# Altium footprint library PLib.PcbLib: 32 footprints (part 1 of 2)
Each footprint in its own frame and in the unit in brackets; x right, y up, seen from the top. Pads: shape width x height; smd on the part's side, far side on the other; paste and mask are expansions set on the pad; w line width, h text height; cw(c..) or ccw(c..) is an arc to the next point about the centre after c.
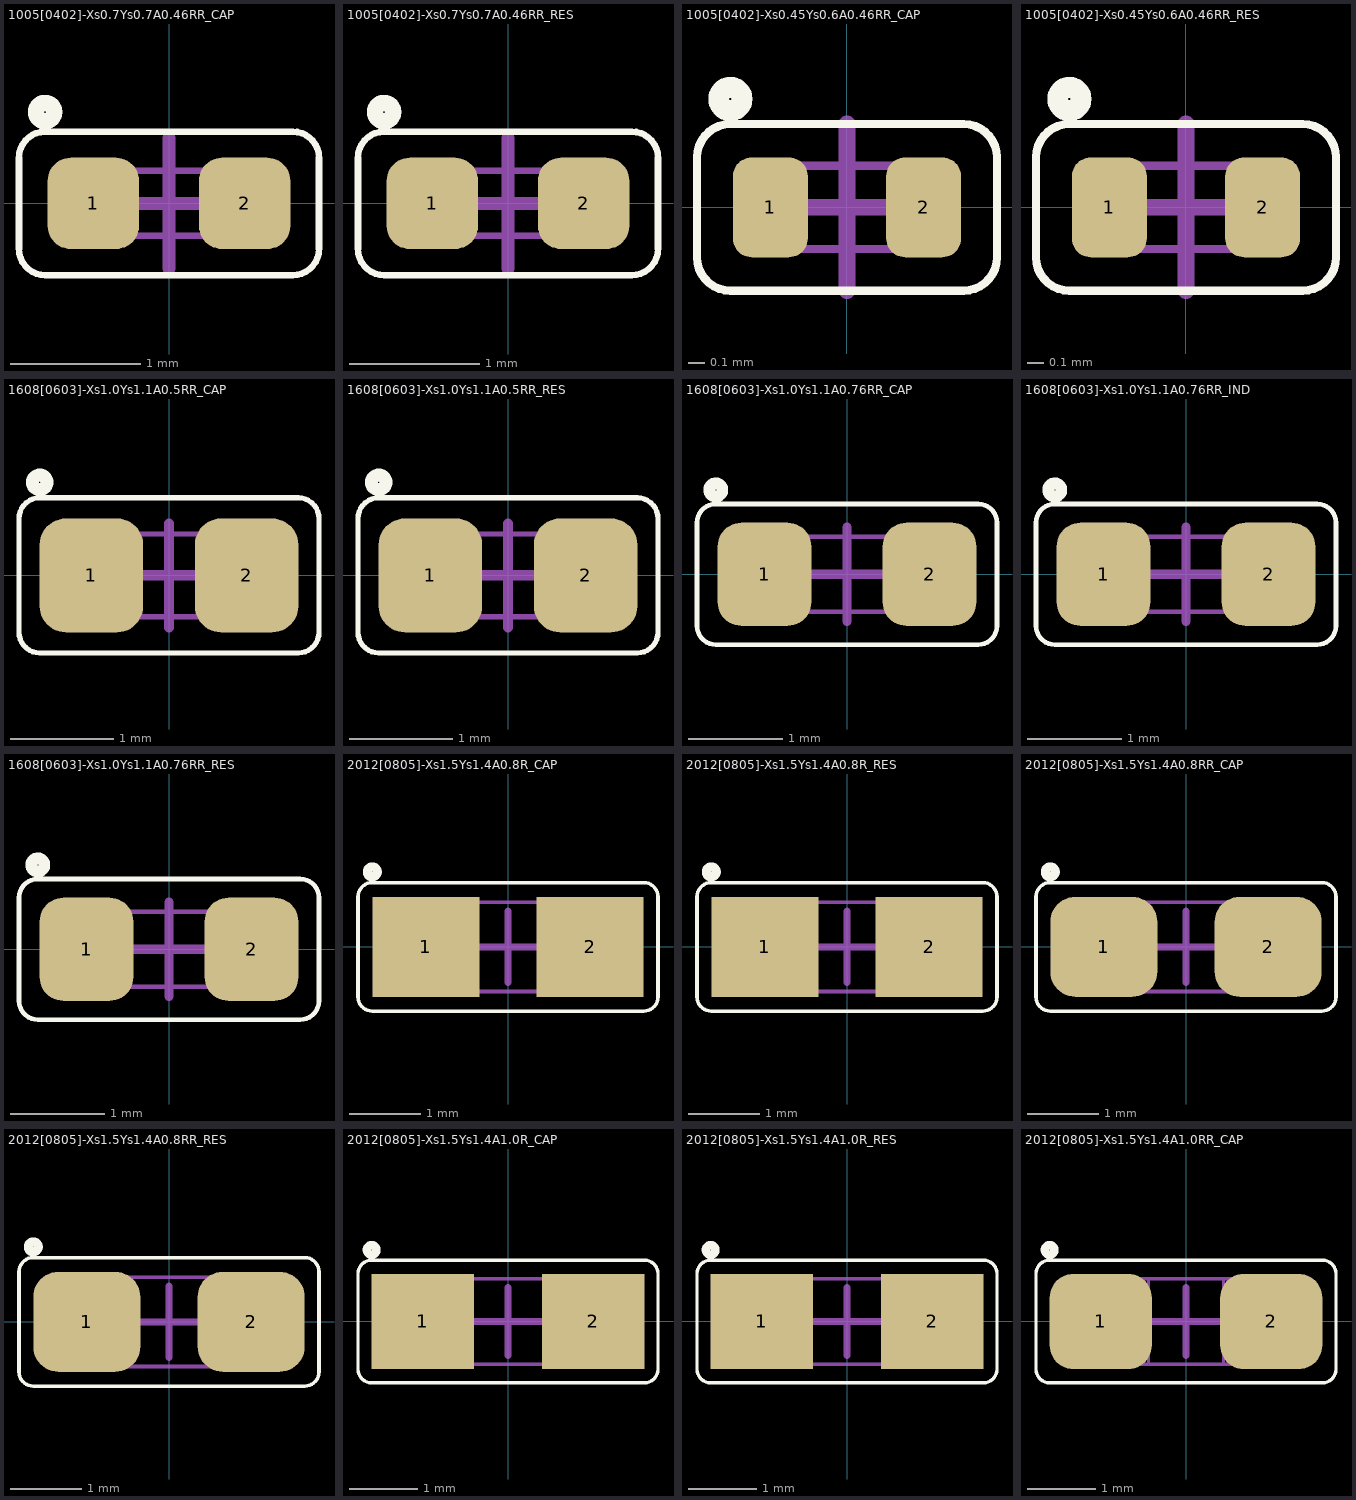
[diagram p0: the footprints below, top view; thin cyan lines are the x and y axes]

## 1005[0402]-Xs0.7Ys0.7A0.46RR_CAP [mm] "Chip; Body 1.1 x 0.5 mm (LxW typ)"
height 0.35
pads (2):
  rrect50% 0.7x0.7 smd mask+0.1: 1(-0.58,0) 2(0.58,0)
Top Overlay:
  circle w0.125: c-0.95,0.7 r0.07
  lines w0.05: -1.15,-0.35 ccw(c-0.95,-0.35) -0.95,-0.55 0.95,-0.55 ccw(c0.95,-0.35) 1.15,-0.35 1.15,0.35 ccw(c0.95,0.35) 0.95,0.55 -0.95,0.55 ccw(c-0.95,0.35) -1.15,0.35 -1.15,-0.35
Mechanical 13:
  lines w0.05: -0.3,-0.25 -0.3,0.25 ; -0.3,-0.25 -0.5,-0.25 -0.5,0.25 -0.3,0.25 ; -0.3,-0.25 0.3,-0.25 ; -0.3,0.25 0.3,0.25 ; 0.3,-0.25 0.3,0.25 ; 0.3,-0.25 0.5,-0.25 0.5,0.25 0.3,0.25
Mechanical 15:
  lines w0.1: -0.5,0 0.5,0 ; 0,-0.5 0,0.5
3D body: height 0.35, standoff 0, extent -0.5,-0.25 -0.3,0.25
3D body: height 0.35, standoff 0, extent -0.3,-0.25 0.3,0.25
3D body: height 0.35, standoff 0, extent 0.3,-0.25 0.5,0.25

## 1005[0402]-Xs0.7Ys0.7A0.46RR_RES [mm] "Chip; Body 1.1 x 0.5 mm (LxW typ)"
height 0.35
pads (2):
  rrect50% 0.7x0.7 smd mask+0.1: 1(-0.58,0) 2(0.58,0)
Top Overlay:
  circle w0.125: c-0.95,0.7 r0.07
  lines w0.05: -1.15,-0.35 ccw(c-0.95,-0.35) -0.95,-0.55 0.95,-0.55 ccw(c0.95,-0.35) 1.15,-0.35 1.15,0.35 ccw(c0.95,0.35) 0.95,0.55 -0.95,0.55 ccw(c-0.95,0.35) -1.15,0.35 -1.15,-0.35
Mechanical 13:
  lines w0.05: -0.3,-0.25 0.3,-0.25 ; -0.3,-0.25 -0.5,-0.25 -0.5,0.25 -0.3,0.25 ; -0.3,-0.25 -0.3,0.25 ; -0.3,0.25 0.3,0.25 ; 0.3,-0.25 0.5,-0.25 0.5,0.25 0.3,0.25 ; 0.3,-0.25 0.3,0.25
Mechanical 15:
  lines w0.1: -0.5,0 0.5,0 ; 0,-0.5 0,0.5
3D body: height 0.35, standoff 0, extent -0.5,-0.25 -0.3,0.25
3D body: height 0.35, standoff 0, extent -0.3,-0.25 0.3,0.25
3D body: height 0.35, standoff 0, extent 0.3,-0.25 0.5,0.25

## 1005[0402]-Xs0.45Ys0.6A0.46RR_CAP [mm] "Chip; Body 1.1 x 0.5 mm (LxW typ)"
height 0.35
pads (2):
  rrect50% 0.45x0.6 smd mask+0.1: 1(-0.46,0) 2(0.46,0)
Top Overlay:
  circle w0.125: c-0.7,0.65 r0.07
  lines w0.05: -0.9,-0.3 ccw(c-0.7,-0.3) -0.7,-0.5 0.7,-0.5 ccw(c0.7,-0.3) 0.9,-0.3 0.9,0.3 ccw(c0.7,0.3) 0.7,0.5 -0.7,0.5 ccw(c-0.7,0.3) -0.9,0.3 -0.9,-0.3
Mechanical 13:
  lines w0.05: -0.305,0.25 0.3,0.25 ; -0.3,-0.25 -0.3,0.25 -0.5,0.25 -0.5,-0.25 -0.3,-0.25 ; -0.3,-0.25 0.3,-0.25 ; 0.3,-0.25 0.3,0.25 ; 0.3,-0.25 0.5,-0.25 0.5,0.25 0.3,0.25
Mechanical 15:
  lines w0.1: -0.5,0 0.5,0 ; 0,-0.5 0,0.5
3D body: height 0.35, standoff 0, extent -0.5,-0.25 -0.3,0.25
3D body: height 0.35, standoff 0, extent -0.3,-0.25 0.3,0.25
3D body: height 0.35, standoff 0, extent 0.3,-0.25 0.5,0.25

## 1005[0402]-Xs0.45Ys0.6A0.46RR_RES [mm] "Chip; Body 1.1 x 0.5 mm (LxW typ)"
height 0.35
pads (2):
  rrect50% 0.45x0.6 smd mask+0.1: 1(-0.46,0) 2(0.46,0)
Top Overlay:
  circle w0.125: c-0.7,0.65 r0.07
  lines w0.05: -0.9,-0.3 ccw(c-0.7,-0.3) -0.7,-0.5 0.7,-0.5 ccw(c0.7,-0.3) 0.9,-0.3 0.9,0.3 ccw(c0.7,0.3) 0.7,0.5 -0.7,0.5 ccw(c-0.7,0.3) -0.9,0.3 -0.9,-0.3
Mechanical 13:
  lines w0.05: -0.305,0.25 0.3,0.25 ; -0.3,-0.25 0.3,-0.25 ; -0.3,-0.25 -0.5,-0.25 -0.5,0.25 -0.3,0.25 -0.3,-0.25 ; 0.3,-0.25 0.5,-0.25 0.5,0.25 0.3,0.25 ; 0.3,-0.25 0.3,0.25
Mechanical 15:
  lines w0.1: -0.5,0 0.5,0 ; 0,-0.5 0,0.5
3D body: height 0.35, standoff 0, extent -0.5,-0.25 -0.3,0.25
3D body: height 0.35, standoff 0, extent -0.3,-0.25 0.3,0.25
3D body: height 0.35, standoff 0, extent 0.3,-0.25 0.5,0.25

## 1608[0603]-Xs1.0Ys1.1A0.5RR_CAP [mm] "Chip; Body 1.6 x 0.8 mm (LxW typ)"
height 0.45
pads (2):
  rrect50% 1x1.1 smd mask+0.1: 1(-0.75,0) 2(0.75,0)
Top Overlay:
  circle w0.125: c-1.25,0.9 r0.07
  lines w0.05: -1.45,-0.55 ccw(c-1.25,-0.55) -1.25,-0.75 1.25,-0.75 ccw(c1.25,-0.55) 1.45,-0.55 1.45,0.55 ccw(c1.25,0.55) 1.25,0.75 -1.25,0.75 ccw(c-1.25,0.55) -1.45,0.55 -1.45,-0.55
Mechanical 13:
  lines w0.05: -0.45,-0.4 -0.8,-0.4 -0.8,0.4 -0.45,0.4 ; -0.45,-0.4 -0.45,0.4 ; -0.45,-0.4 0.45,-0.4 ; -0.45,0.4 0.45,0.4 ; 0.45,-0.4 0.45,0.4 ; 0.45,-0.4 0.8,-0.4 0.8,0.4 0.45,0.4
Mechanical 15:
  lines w0.1: -0.5,0 0.5,0 ; 0,-0.5 0,0.5
3D body: height 0.45, standoff 0, extent -0.8,-0.4 -0.45,0.4
3D body: height 0.45, standoff 0, extent -0.45,-0.4 0.45,0.4
3D body: height 0.45, standoff 0, extent 0.45,-0.4 0.8,0.4

## 1608[0603]-Xs1.0Ys1.1A0.5RR_RES [mm] "Chip; Body 1.6 x 0.8 mm (LxW typ)"
height 0.45
pads (2):
  rrect50% 1x1.1 smd mask+0.1: 1(-0.75,0) 2(0.75,0)
Top Overlay:
  circle w0.125: c-1.25,0.9 r0.07
  lines w0.05: -1.45,-0.55 ccw(c-1.25,-0.55) -1.25,-0.75 1.25,-0.75 ccw(c1.25,-0.55) 1.45,-0.55 1.45,0.55 ccw(c1.25,0.55) 1.25,0.75 -1.25,0.75 ccw(c-1.25,0.55) -1.45,0.55 -1.45,-0.55
Mechanical 13:
  lines w0.05: -0.45,-0.4 0.45,-0.4 ; -0.45,-0.4 -0.45,0.4 ; -0.45,-0.4 -0.8,-0.4 -0.8,0.4 -0.45,0.4 ; -0.45,0.4 0.45,0.4 ; 0.45,-0.4 0.8,-0.4 0.8,0.4 0.45,0.4 ; 0.45,-0.4 0.45,0.4
Mechanical 15:
  lines w0.1: -0.5,0 0.5,0 ; 0,-0.5 0,0.5
3D body: height 0.45, standoff 0, extent -0.45,-0.4 0.45,0.4
3D body: height 0.45, standoff 0, extent -0.8,-0.4 -0.45,0.4
3D body: height 0.45, standoff 0, extent 0.45,-0.4 0.8,0.4

## 1608[0603]-Xs1.0Ys1.1A0.76RR_CAP [mm] "Chip; Body 1.6 x 0.8 mm (LxW typ)"
height 0.45
pads (2):
  rrect50% 1x1.1 smd mask+0.1: 1(-0.88,0) 2(0.88,0)
Top Overlay:
  circle w0.125: c-1.4,0.9 r0.07
  lines w0.05: -1.6,-0.55 ccw(c-1.4,-0.55) -1.4,-0.75 1.4,-0.75 ccw(c1.4,-0.55) 1.6,-0.55 1.6,0.55 ccw(c1.4,0.55) 1.4,0.75 -1.4,0.75 ccw(c-1.4,0.55) -1.6,0.55 -1.6,-0.55
Mechanical 13:
  lines w0.05: -0.45,-0.4 -0.8,-0.4 -0.8,0.4 -0.45,0.4 ; -0.45,-0.4 -0.45,0.4 ; -0.45,-0.4 0.45,-0.4 ; -0.45,0.4 0.45,0.4 ; 0.45,-0.4 0.45,0.4 ; 0.45,-0.4 0.8,-0.4 0.8,0.4 0.45,0.4
Mechanical 15:
  lines w0.1: -0.5,0 0.5,0 ; 0,-0.5 0,0.5
3D body: height 0.45, standoff 0, extent -0.8,-0.4 -0.45,0.4
3D body: height 0.45, standoff 0, extent -0.45,-0.4 0.45,0.4
3D body: height 0.45, standoff 0, extent 0.45,-0.4 0.8,0.4

## 1608[0603]-Xs1.0Ys1.1A0.76RR_IND [mm] "Chip; Body 1.6 x 0.8 mm (LxW typ)"
height 0.45
pads (2):
  rrect50% 1x1.1 smd mask+0.1: 1(-0.88,0) 2(0.88,0)
Top Overlay:
  circle w0.125: c-1.4,0.9 r0.07
  lines w0.05: -1.6,-0.55 ccw(c-1.4,-0.55) -1.4,-0.75 1.4,-0.75 ccw(c1.4,-0.55) 1.6,-0.55 1.6,0.55 ccw(c1.4,0.55) 1.4,0.75 -1.4,0.75 ccw(c-1.4,0.55) -1.6,0.55 -1.6,-0.55
Mechanical 13:
  lines w0.05: -0.45,-0.4 -0.8,-0.4 -0.8,0.4 -0.45,0.4 ; -0.45,-0.4 -0.45,0.4 ; -0.45,-0.4 0.45,-0.4 ; -0.45,0.4 0.45,0.4 ; 0.45,-0.4 0.45,0.4 ; 0.45,-0.4 0.8,-0.4 0.8,0.4 0.45,0.4
Mechanical 15:
  lines w0.1: -0.5,0 0.5,0 ; 0,-0.5 0,0.5
3D body: height 0.45, standoff 0, extent 0.45,-0.4 0.8,0.4
3D body: height 0.45, standoff 0, extent -0.8,-0.4 -0.45,0.4
3D body: height 0.45, standoff 0, extent -0.45,-0.4 0.45,0.4

## 1608[0603]-Xs1.0Ys1.1A0.76RR_RES [mm] "Chip; Body 1.6 x 0.8 mm (LxW typ)"
height 0.45
pads (2):
  rrect50% 1x1.1 smd mask+0.1: 1(-0.88,0) 2(0.88,0)
Top Overlay:
  circle w0.125: c-1.4,0.9 r0.07
  lines w0.05: -1.6,-0.55 ccw(c-1.4,-0.55) -1.4,-0.75 1.4,-0.75 ccw(c1.4,-0.55) 1.6,-0.55 1.6,0.55 ccw(c1.4,0.55) 1.4,0.75 -1.4,0.75 ccw(c-1.4,0.55) -1.6,0.55 -1.6,-0.55
Mechanical 13:
  lines w0.05: -0.45,-0.4 0.45,-0.4 ; -0.45,-0.4 -0.45,0.4 ; -0.45,-0.4 -0.8,-0.4 -0.8,0.4 -0.45,0.4 ; -0.45,0.4 0.45,0.4 ; 0.45,-0.4 0.8,-0.4 0.8,0.4 0.45,0.4 ; 0.45,-0.4 0.45,0.4
Mechanical 15:
  lines w0.1: -0.5,0 0.5,0 ; 0,-0.5 0,0.5
3D body: height 0.45, standoff 0, extent -0.45,-0.4 0.45,0.4
3D body: height 0.45, standoff 0, extent -0.8,-0.4 -0.45,0.4
3D body: height 0.45, standoff 0, extent 0.45,-0.4 0.8,0.4

## 2012[0805]-Xs1.5Ys1.4A0.8R_CAP [mm] "Chip; Body 2.0 x 1.3 mm (LxW typ)"
height 0.5
pads (2):
  rect 1.5x1.4 smd mask+0.1: 1(-1.15,0) 2(1.15,0)
Top Overlay:
  circle w0.125: c-1.9,1.05 r0.07
  lines w0.05: -2.1,-0.7 ccw(c-1.9,-0.7) -1.9,-0.9 1.9,-0.9 ccw(c1.9,-0.7) 2.1,-0.7 2.1,0.7 ccw(c1.9,0.7) 1.9,0.9 -1.9,0.9 ccw(c-1.9,0.7) -2.1,0.7 -2.1,-0.7
Mechanical 13:
  lines w0.05: -0.555,-0.625 0.55,-0.625 ; -0.55,0.625 0.55,0.625 ; -0.55,0.625 -0.55,0.625 ; -0.55,0.625 -0.55,-0.625 -1,-0.625 -1,0.625 -0.55,0.625 ; 0.55,-0.625 1,-0.625 1,0.625 0.55,0.625 ; 0.55,-0.625 0.55,0.625
Mechanical 15:
  lines w0.1: -0.5,0 0.5,0 ; 0,-0.5 0,0.5
3D body: height 0.5, standoff 0, extent 0.55,-0.625 1,0.625
3D body: height 0.5, standoff 0, extent -1,-0.625 -0.55,0.625
3D body: height 0.5, standoff 0, extent -0.55,-0.625 0.55,0.625

## 2012[0805]-Xs1.5Ys1.4A0.8R_RES [mm] "Chip; Body 2.0 x 1.3 mm (LxW typ)"
height 0.5
pads (2):
  rect 1.5x1.4 smd mask+0.1: 1(-1.15,0) 2(1.15,0)
Top Overlay:
  circle w0.125: c-1.9,1.05 r0.07
  lines w0.05: -2.1,-0.7 ccw(c-1.9,-0.7) -1.9,-0.9 1.9,-0.9 ccw(c1.9,-0.7) 2.1,-0.7 2.1,0.7 ccw(c1.9,0.7) 1.9,0.9 -1.9,0.9 ccw(c-1.9,0.7) -2.1,0.7 -2.1,-0.7
Mechanical 13:
  lines w0.05: -0.555,-0.625 0.55,-0.625 ; -0.55,0.625 0.55,0.625 ; -0.55,0.625 -0.55,0.625 ; -0.55,0.625 -0.55,-0.625 -1,-0.625 -1,0.625 -0.55,0.625 ; 0.55,-0.625 1,-0.625 1,0.625 0.55,0.625 ; 0.55,-0.625 0.55,0.625
Mechanical 15:
  lines w0.1: -0.5,0 0.5,0 ; 0,-0.5 0,0.5
3D body: height 0.5, standoff 0, extent -0.55,-0.625 0.55,0.625
3D body: height 0.5, standoff 0, extent -1,-0.625 -0.55,0.625
3D body: height 0.5, standoff 0, extent 0.55,-0.625 1,0.625

## 2012[0805]-Xs1.5Ys1.4A0.8RR_CAP [mm] "Chip; Body 2.0 x 1.3 mm (LxW typ)"
height 0.5
pads (2):
  rrect50% 1.5x1.4 smd mask+0.1: 1(-1.15,0) 2(1.15,0)
Top Overlay:
  circle w0.125: c-1.9,1.05 r0.07
  lines w0.05: -2.1,-0.7 ccw(c-1.9,-0.7) -1.9,-0.9 1.9,-0.9 ccw(c1.9,-0.7) 2.1,-0.7 2.1,0.7 ccw(c1.9,0.7) 1.9,0.9 -1.9,0.9 ccw(c-1.9,0.7) -2.1,0.7 -2.1,-0.7
Mechanical 13:
  lines w0.05: -0.555,-0.625 0.55,-0.625 ; -0.55,0.625 -1,0.625 -1,-0.625 -0.55,-0.625 -0.55,0.625 ; -0.55,0.625 -0.55,0.625 ; -0.55,0.625 0.55,0.625 ; 0.55,-0.625 0.55,0.625 ; 0.55,-0.625 1,-0.625 1,0.625 0.55,0.625
Mechanical 15:
  lines w0.1: -0.5,0 0.5,0 ; 0,-0.5 0,0.5
3D body: height 0.5, standoff 0, extent 0.55,-0.625 1,0.625
3D body: height 0.5, standoff 0, extent -1,-0.625 -0.55,0.625
3D body: height 0.5, standoff 0, extent -0.55,-0.625 0.55,0.625

## 2012[0805]-Xs1.5Ys1.4A0.8RR_RES [mm] "Chip; Body 2.0 x 1.3 mm (LxW typ)"
height 0.5
pads (2):
  rrect50% 1.5x1.4 smd mask+0.1: 1(-1.15,0) 2(1.15,0)
Top Overlay:
  circle w0.125: c-1.9,1.05 r0.07
  lines w0.05: -2.1,-0.7 ccw(c-1.9,-0.7) -1.9,-0.9 1.9,-0.9 ccw(c1.9,-0.7) 2.1,-0.7 2.1,0.7 ccw(c1.9,0.7) 1.9,0.9 -1.9,0.9 ccw(c-1.9,0.7) -2.1,0.7 -2.1,-0.7
Mechanical 13:
  lines w0.05: -0.555,-0.625 0.55,-0.625 ; -0.55,0.625 -1,0.625 -1,-0.625 -0.55,-0.625 -0.55,0.625 ; -0.55,0.625 -0.55,0.625 ; -0.55,0.625 0.55,0.625 ; 0.55,-0.625 0.55,0.625 ; 0.55,-0.625 1,-0.625 1,0.625 0.55,0.625
Mechanical 15:
  lines w0.1: -0.5,0 0.5,0 ; 0,-0.5 0,0.5
3D body: height 0.5, standoff 0, extent -0.55,-0.625 0.55,0.625
3D body: height 0.5, standoff 0, extent -1,-0.625 -0.55,0.625
3D body: height 0.5, standoff 0, extent 0.55,-0.625 1,0.625

## 2012[0805]-Xs1.5Ys1.4A1.0R_CAP [mm] "Chip; Body 2.0 x 1.3 mm (LxW typ)"
height 0.5
pads (2):
  rect 1.5x1.4 smd mask+0.1: 1(-1.25,0) 2(1.25,0)
Top Overlay:
  circle w0.125: c-2,1.05 r0.07
  lines w0.05: -2.2,-0.7 ccw(c-2,-0.7) -2,-0.9 2,-0.9 ccw(c2,-0.7) 2.2,-0.7 2.2,0.7 ccw(c2,0.7) 2,0.9 -2,0.9 ccw(c-2,0.7) -2.2,0.7 -2.2,-0.7
Mechanical 13:
  lines w0.05: -0.555,-0.625 0.55,-0.625 ; -0.55,0.625 -1,0.625 -1,-0.625 -0.55,-0.625 -0.55,0.625 ; -0.55,0.625 -0.55,0.625 ; -0.55,0.625 0.55,0.625 ; 0.55,-0.625 0.55,0.625 ; 0.55,-0.625 1,-0.625 1,0.625 0.55,0.625
Mechanical 15:
  lines w0.1: -0.5,0 0.5,0 ; 0,-0.5 0,0.5
3D body: height 0.5, standoff 0, extent 0.55,-0.625 1,0.625
3D body: height 0.5, standoff 0, extent -1,-0.625 -0.55,0.625
3D body: height 0.5, standoff 0, extent -0.55,-0.625 0.55,0.625

## 2012[0805]-Xs1.5Ys1.4A1.0R_RES [mm] "Chip; Body 2.0 x 1.3 mm (LxW typ)"
height 0.5
pads (2):
  rect 1.5x1.4 smd mask+0.1: 1(-1.25,0) 2(1.25,0)
Top Overlay:
  circle w0.125: c-2,1.05 r0.07
  lines w0.05: -2.2,-0.7 ccw(c-2,-0.7) -2,-0.9 2,-0.9 ccw(c2,-0.7) 2.2,-0.7 2.2,0.7 ccw(c2,0.7) 2,0.9 -2,0.9 ccw(c-2,0.7) -2.2,0.7 -2.2,-0.7
Mechanical 13:
  lines w0.05: -0.555,-0.625 0.55,-0.625 ; -0.55,0.625 0.55,0.625 ; -0.55,0.625 -0.55,0.625 ; -0.55,0.625 -0.55,-0.625 -1,-0.625 -1,0.625 -0.55,0.625 ; 0.55,-0.625 1,-0.625 1,0.625 0.55,0.625 ; 0.55,-0.625 0.55,0.625
Mechanical 15:
  lines w0.1: -0.5,0 0.5,0 ; 0,-0.5 0,0.5
3D body: height 0.5, standoff 0, extent -0.55,-0.625 0.55,0.625
3D body: height 0.5, standoff 0, extent -1,-0.625 -0.55,0.625
3D body: height 0.5, standoff 0, extent 0.55,-0.625 1,0.625

## 2012[0805]-Xs1.5Ys1.4A1.0RR_CAP [mm] "Chip; Body 2.0 x 1.3 mm (LxW typ)"
height 0.5
pads (2):
  rrect50% 1.5x1.4 smd mask+0.1: 1(-1.25,0) 2(1.25,0)
Top Overlay:
  circle w0.125: c-2,1.05 r0.07
  lines w0.05: -2.2,-0.7 ccw(c-2,-0.7) -2,-0.9 2,-0.9 ccw(c2,-0.7) 2.2,-0.7 2.2,0.7 ccw(c2,0.7) 2,0.9 -2,0.9 ccw(c-2,0.7) -2.2,0.7 -2.2,-0.7
Mechanical 13:
  lines w0.05: -0.555,-0.625 0.55,-0.625 ; -0.55,0.625 -1,0.625 -1,-0.625 -0.55,-0.625 -0.55,0.625 ; -0.55,0.625 -0.55,0.625 ; -0.55,0.625 0.55,0.625 ; 0.55,-0.625 0.55,0.625 ; 0.55,-0.625 1,-0.625 1,0.625 0.55,0.625
Mechanical 15:
  lines w0.1: -0.5,0 0.5,0 ; 0,-0.5 0,0.5
3D body: height 0.5, standoff 0, extent -1,-0.625 -0.55,0.625
3D body: height 0.5, standoff 0, extent 0.55,-0.625 1,0.625
3D body: height 0.5, standoff 0, extent -0.55,-0.625 0.55,0.625